# EAGLE library part XR4151CP-F (library Exar_By_element14_Batch_1)
VOLTAGE TO FREQUENCY CONVERTER
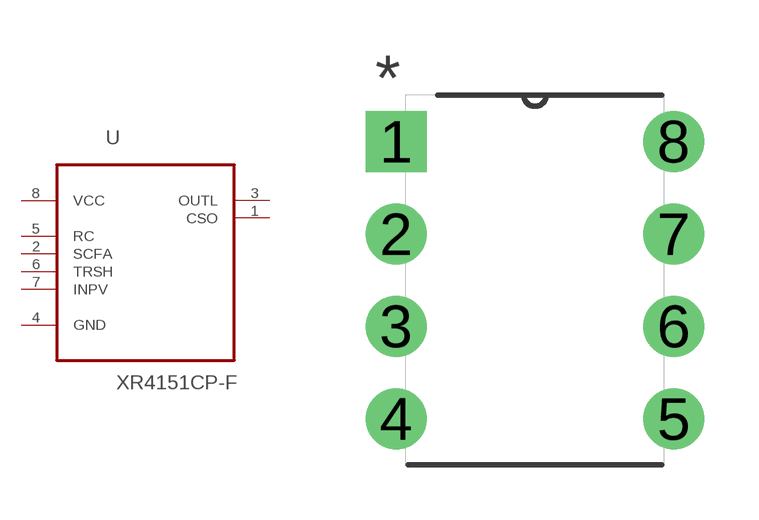
[diagram p91: symbol with the pads of DIP254P762X533-8; footprint DIP254P762X533-8]

Designator prefix U

## XR4151CP-F (MPN: XR4151CP-F; OC_FARNELL: 1798672; OC_NEWARK: 24R2372; PACKAGE: DIP-8; SUPPLIER: Exar)  [DIP254P762X533-8]
1  CSO  out
2  SCFA  in
3  OUTL  out
4  GND  pas
5  RC  in
6  TRSH  in
7  INPV  in
8  VCC  pwr

## Footprint DIP254P762X533-8 (pad centres in mm)
drill 1.118 square: 1 -7.62,7.62
drill 1.118: 2 -7.62,5.08; 3 -7.62,2.54; 4 -7.62,0; 5 0,0; 6 0,2.54; 7 0,5.08; 8 0,7.62